# EAGLE library part ENC424J600 (library Microchip)
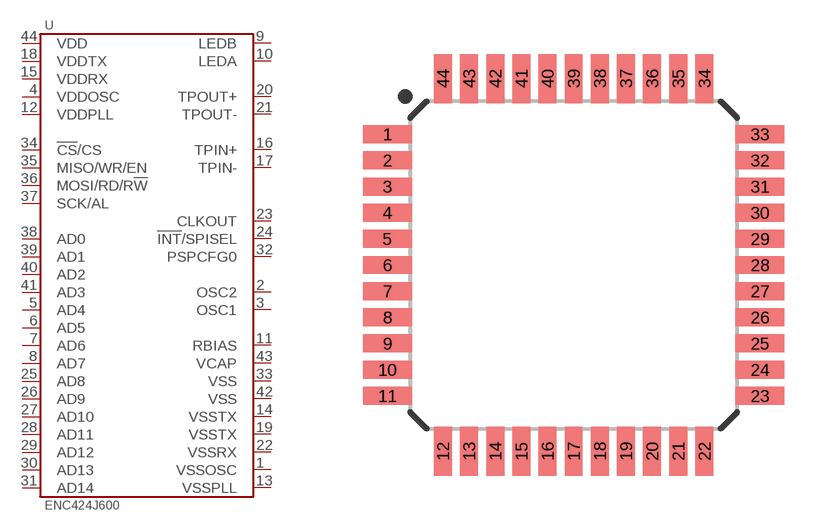
[diagram p10: symbol with the pads of TQFP-44-10MM; footprint TQFP-44-10MM]

Designator prefix U

## ENC424J600T-I/PT  [TQFP-44-10MM]
1  VSSOSC
2  OSC2
3  OSC1
4  VDDOSC
5  AD4
6  AD5
7  AD6
8  AD7
9  LEDB
10  LEDA
11  RBIAS
12  VDDPLL
13  VSSPLL
14  VSSTX
15  VDDRX
16  TPIN+
17  TPIN-
18  VDDTX
19  VSSTX
20  TPOUT+
21  TPOUT-
22  VSSRX
23  CLKOUT
24  !INT!/SPISEL
25  AD8
26  AD9
27  AD10
28  AD11
29  AD12
30  AD13
31  AD14
32  PSPCFG0
33  VSS
34  !CS!/CS
35  MISO/WR/EN
36  MOSI/RD/R!W
37  SCK/AL
38  AD0
39  AD1
40  AD2
41  AD3
42  VSS
43  VCAP
44  VDD

## Footprint TQFP-44-10MM (pad centres in mm)
smd 1.5 x 0.55: 1 -5.7,4; 2 -5.7,3.2; 3 -5.7,2.4; 4 -5.7,1.6; 5 -5.7,0.8; 6 -5.7,0; 7 -5.7,-0.8; 8 -5.7,-1.6; 9 -5.7,-2.4; 10 -5.7,-3.2; 11 -5.7,-4; 23 5.7,-4; 24 5.7,-3.2; 25 5.7,-2.4; 26 5.7,-1.6; 27 5.7,-0.8; 28 5.7,0; 29 5.7,0.8; 30 5.7,1.6; 31 5.7,2.4; 32 5.7,3.2; 33 5.7,4
smd 0.55 x 1.5: 12 -4,-5.7; 13 -3.2,-5.7; 14 -2.4,-5.7; 15 -1.6,-5.7; 16 -0.8,-5.7; 17 0,-5.7; 18 0.8,-5.7; 19 1.6,-5.7; 20 2.4,-5.7; 21 3.2,-5.7; 22 4,-5.7; 34 4,5.7; 35 3.2,5.7; 36 2.4,5.7; 37 1.6,5.7; 38 0.8,5.7; 39 0,5.7; 40 -0.8,5.7; 41 -1.6,5.7; 42 -2.4,5.7; 43 -3.2,5.7; 44 -4,5.7